# Altium schematic symbol library MCP2515.Schlib: 1 symbol
Pins are listed as number, name and electrical type; pins without a type are passive.

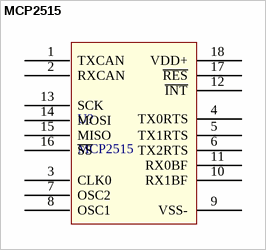
[diagram p0: symbol MCP2515]

## MCP2515
designator U?
IC CAN SPI INTERFACE
pins: 1 TXCAN, 2 RXCAN, 3 CLK0, 4 TX0RTS, 5 TX1RTS, 6 TX2RTS, 7 OSC2, 8 OSC1, 9 VSS-, 10 RX1BF, 11 RX0BF, 12 ~{INT}, 13 SCK, 14 MOSI, 15 MISO, 16 ~{SS}, 17 ~{RES}, 18 VDD+